# Altium schematic symbol library ESP32-WROOM-32D_DEV_BOARD.SchLib: 1 symbol
Pins are listed as number, name and electrical type; pins without a type are passive.

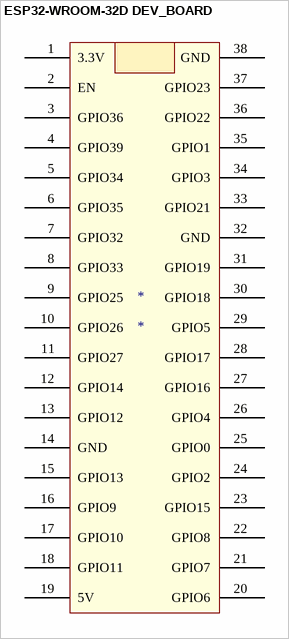
[diagram p0: symbol ESP32-WROOM-32D DEV_BOARD]

## ESP32-WROOM-32D DEV_BOARD
designator *
footprint PCBComponent_1
pins: 1 3.3V, 2 EN, 3 GPIO36, 4 GPIO39, 5 GPIO34, 6 GPIO35, 7 GPIO32, 8 GPIO33, 9 GPIO25, 10 GPIO26, 11 GPIO27, 12 GPIO14, 13 GPIO12, 14 GND, 15 GPIO13, 16 GPIO9, 17 GPIO10, 18 GPIO11, 19 5V, 20 GPIO6, 21 GPIO7, 22 GPIO8, 23 GPIO15, 24 GPIO2, 25 GPIO0, 26 GPIO4, 27 GPIO16, 28 GPIO17, 29 GPIO5, 30 GPIO18, 31 GPIO19, 32 GND, 33 GPIO21, 34 GPIO3, 35 GPIO1, 36 GPIO22, 37 GPIO23, 38 GND